# Altium footprint library SparkFun-Connectors.PCBLIB: 305 footprints (part 12 of 20)
Each footprint in its own frame and in the unit in brackets; x right, y up, seen from the top. Pads: shape width x height; smd on the part's side, far side on the other; paste and mask are expansions set on the pad; w line width, h text height; cw(c..) or ccw(c..) is an arc to the next point about the centre after c.
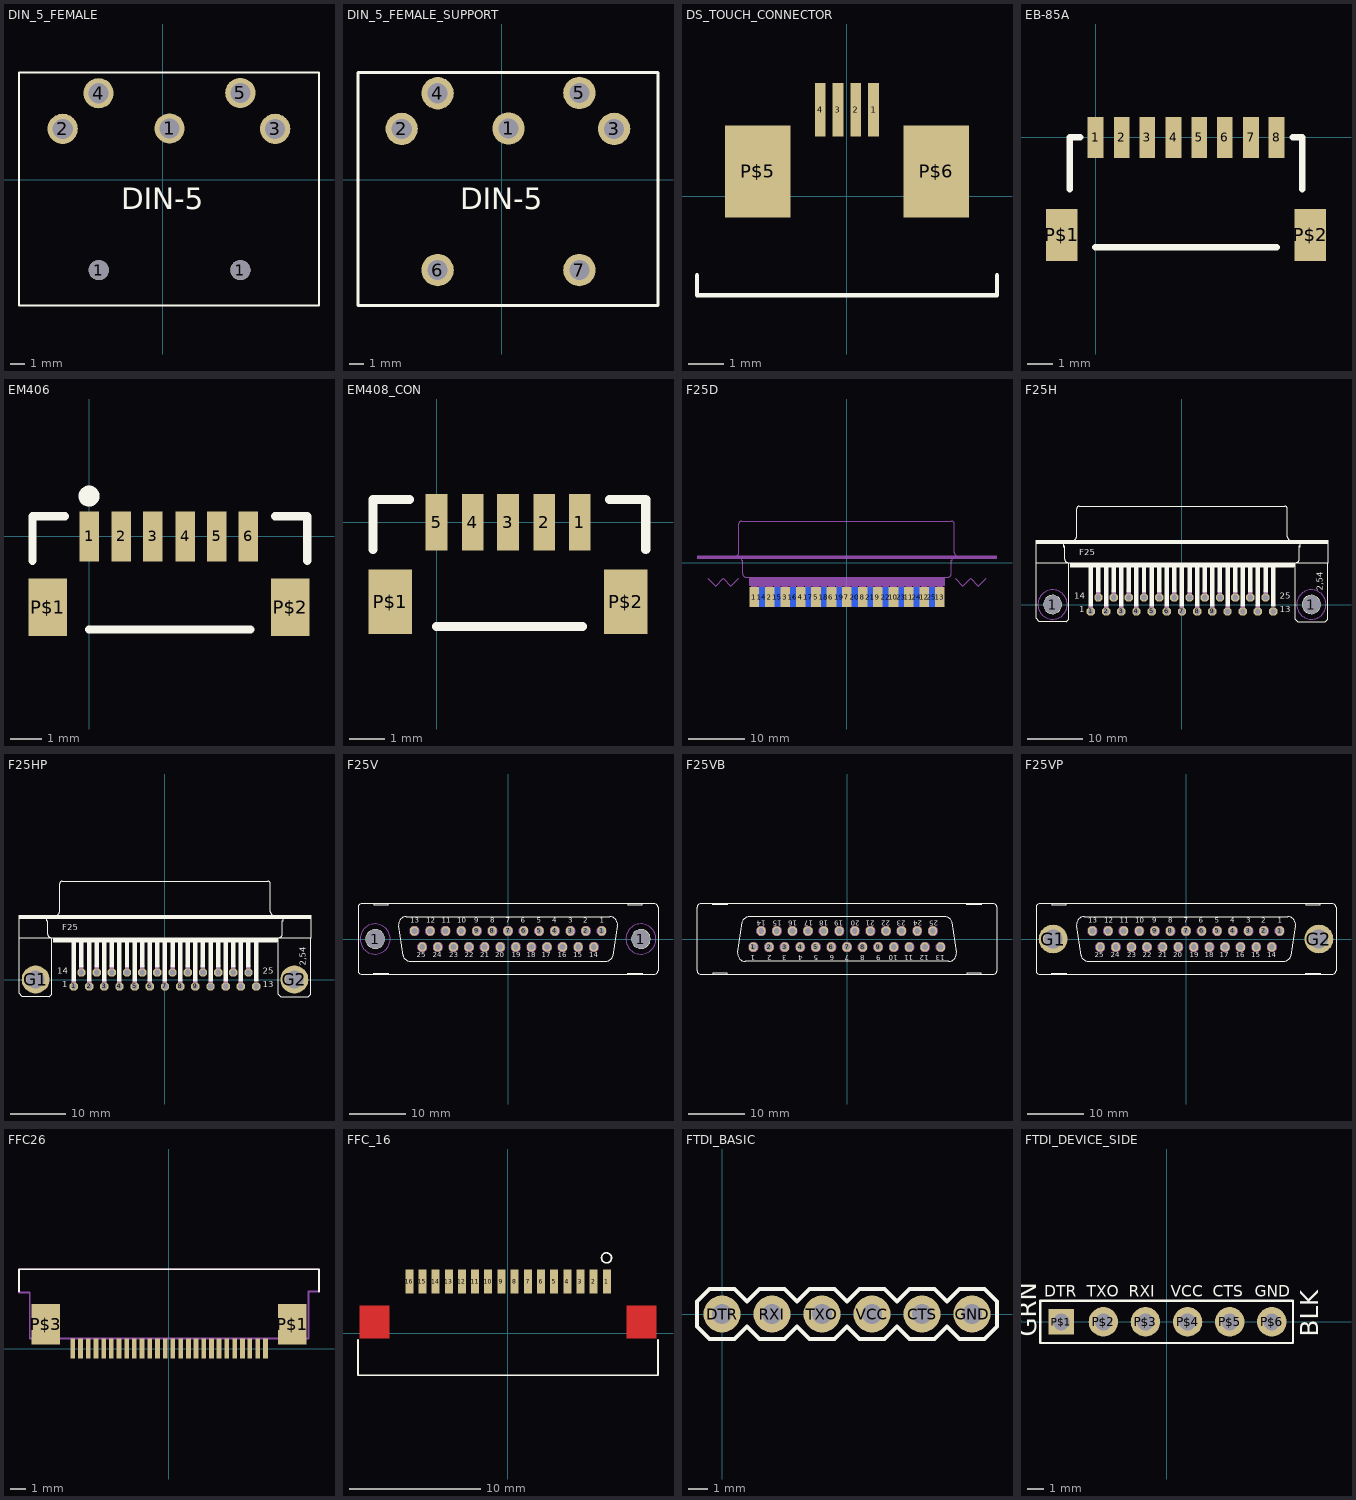
[diagram p11: the footprints below, top view; thin cyan lines are the x and y axes]

## DIN_5_FEMALE [mil]
pads (7):
  round 56 hole 56: 1(-177.95,-251.18) 1(216,-251.18)
  round 84 hole 56: 1(19,143) 2(-278.35,142) 3(313,142) 4(-178.35,241) 5(216,242)
Top Overlay:
  lines w5: -400,-350 435,-350 435,299 -400,299 -400,-350
  text "DIN-5" at -115.75,-100.79 h102.3
Mechanical 16:
  lines w4: 18,142 19,142

## DIN_5_FEMALE_SUPPORT [mil]
pads (7):
  round 90 hole 56: 1(19,143) 2(-278.35,142) 3(313,142) 4(-178.35,241) 5(216,242) 6(-178.35,-251.27) 7(216,-251.27)
Top Overlay:
  lines w8: -400,-350 435,-350 435,299 -400,299 -400,-350
  text "DIN-5" at -115.75,-100.79 h102.3
Mechanical 16:
  lines w4: 18,142 19,142

## DS_TOUCH_CONNECTOR [mil]
pads (6):
  rect 12x60 smd: 1(30,97) 2(10,97) 3(-9.84,97) 4(-29.53,97)
  rect 73x103 smd: P$5(-99.41,28) P$6(100,28)
Top Overlay:
  lines w5: -167.32,-87.8 -167.32,-110.24 168,-110.24 168,-87.8

## EB-85A [mil]
pads (10):
  rect 24x62 smd: 1(0,0) 2(40,0) 3(79,0) 4(119,0) 5(158,0) 6(197,0) 7(237,0) 8(276,0)
  rect 48x79 smd: P$1(-51.18,-148.62) P$2(327,-148.62)
Top Overlay:
  lines w10: -39.37,-78.74 -39.37,0 -23.62,0 ; 0,-167.32 276,-167.32 ; 301,0 315,0 315,-78.74

## EM406 [mil]
pads (8):
  rect 24x62 smd: 1(0,0) 2(40,0) 3(79,0) 4(119,0) 5(158,0) 6(197,0)
  rect 48x71 smd: P$1(-51.18,-87.6) P$2(249,-87.6)
Top Overlay:
  circle w16: c0,50 r5
  lines w10: -70,-30 -70,25 -30,25 ; 0,-115 200,-115 ; 230,25 270,25 270,-30

## EM408_CON [mil]
pads (7):
  rect 24x62 smd: 1(158,0) 2(119,0) 3(79,0) 4(40,0) 5(0,0)
  rect 48x71 smd: P$1(-51.18,-87.6) P$2(209,-87.6)
Top Overlay:
  lines w10: -70,-30 -70,25 -30,25 ; 0,-115 161,-115 ; 191,25 231,25 231,-30

## F25D [mil]
pads (25):
  rect 67x138 smd: 1(-648.01,-237.98) 2(-540,-237.99) 3(-431.99,-237.98) 4(-324.01,-237.98) 5(-215.99,-237.98) 6(-108.01,-237.98) 7(0,-237.99) 8(109,-237.98) 9(216,-237.98) 10(325,-237.98) 11(432,-237.98) 12(540,-237.99) 13(649,-237.98)
  rect 67x138 smd far side: 14(-594,-238) 15(-486,-238) 16(-378,-238) 17(-270,-238) 18(-162,-238) 19(-54,-238) 20(54,-238) 21(162,-238) 22(270,-238) 23(378,-238) 24(486,-238) 25(594,-238)
Bottom Overlay:
  text "25" at 627,-32.48 h77.5
  text "14" at -553.13,-32.48 h77.5
Mechanical 13:
  lines w0: -972,-108 -918,-162 -864,-108 -810,-162 -756,-108 ; 756,-108 810,-162 864,-108 918,-162 972,-108
  text "Board" at 774,-100 h77.5
  text "Board" at -974,-100 h77.5
Mechanical 16:
  rectangle: -671.62,-258.27 -624.38,-159.84
  rectangle: -563.62,-258.27 -516.38,-159.84
  rectangle: -455.62,-258.27 -408.38,-159.84
  rectangle: -347.62,-258.27 -300.38,-159.84
  rectangle: -239.62,-258.27 -192.38,-159.84
  rectangle: -131.62,-258.27 -84.38,-159.84
  rectangle: -23.62,-258.27 24,-159.84
  rectangle: 85,-258.27 132,-159.84
  rectangle: -1047.24,28 1048,52
  rectangle: -685.04,-161.42 686,-98.43
  rectangle: 193,-258.27 240,-159.84
  rectangle: 301,-258.27 348,-159.84
  rectangle: 409,-258.27 456,-159.84
  rectangle: 517,-258.27 564,-159.84
  rectangle: 625,-258.27 672,-159.84
  lines w6: -780,48 ccw(c-780,73) -755,73 -755,273 cw(c-735,273) -735,293 730,293 cw(c730,273) 750,273 750,73 ccw(c775,73) 775,48 ; -734,40 -734,20 -729,20 -729,-75 ccw(c-704,-75) -704,-100 ; -704.76,-100 705,-100 ; 704,-100 ccw(c704,-75) 729,-75 729,20 734,20 734,40
  text "1" at -665.07,-85.77 h77.5
  text "F25D" at -678,181 h77.5
  text "13" at 613,-81.83 h77.5
Mechanical 30:
  rectangle: -617.62,-258.27 -570.38,-159.84
  rectangle: -509.62,-258.27 -462.38,-159.84
  rectangle: -401.62,-258.27 -354.38,-159.84
  rectangle: -293.62,-258.27 -246.38,-159.84
  rectangle: -185.62,-258.27 -138.38,-159.84
  rectangle: -77.62,-258.27 -30.38,-159.84
  rectangle: 31,-258.27 78,-159.84
  rectangle: 139,-258.27 186,-159.84
  rectangle: 247,-258.27 294,-159.84
  rectangle: 355,-258.27 402,-159.84
  rectangle: 463,-258.27 510,-159.84
  rectangle: 571,-258.27 618,-159.84

## F25H [mil]
pads (27):
  round 130 hole 130: 1(-926,0) 1(926,0)
  oct 60x60 hole 40: 1(-652,-50) 2(-543,-50) 3(-435,-50) 4(-326,-50) 5(-217,-50) 6(-109,-50) 7(0,-50) 8(109,-50) 9(217,-50) 10(326,-50) 11(435,-50) 12(543,-50) 13(652,-50) 14(-598,50) 15(-489,50) 16(-380,50) 17(-272,50) 18(-163,50) 19(-54,50) 20(54,50) 21(163,50) 22(272,50) 23(380,50) 24(489,50) 25(598,50)
Top Overlay:
  circle w6: c-926,0 r65
  circle w6: c926,0 r65
  rectangle: -800,270 800,300
  rectangle: -1045,440 1045,460
  rectangle: -668,-15 -636,270
  rectangle: -614,85 -582,270
  rectangle: -559,-15 -527,270
  rectangle: -505,85 -473,270
  rectangle: -451,-15 -419,270
  rectangle: -396,85 -364,270
  rectangle: -342,-15 -310,270
  rectangle: -288,85 -256,270
  rectangle: -233,-15 -201,270
  rectangle: -179,85 -147,270
  rectangle: -125,-15 -93,270
  rectangle: -70,85 -38,270
  rectangle: -16,-15 16,270
  rectangle: 38,85 70,270
  rectangle: 93,-15 125,270
  rectangle: 147,85 179,270
  rectangle: 201,-15 233,270
  rectangle: 255,85 287,270
  rectangle: 310,-15 342,270
  rectangle: 364,85 396,270
  rectangle: 419,-15 451,270
  rectangle: 473,85 505,270
  rectangle: 527,-15 559,270
  rectangle: 582,85 614,270
  rectangle: 636,-15 668,270
  lines w6: -845,410 -845,420 ; -815,300 cw(c-815,325) -840,325 -840,420 -845,420 ; -780,460 ccw(c-780,485) -755,485 -755,685 cw(c-735,685) -735,705 -725,705 725,705 735,705 cw(c735,685) 755,685 755,485 ccw(c780,485) 780,460 ; 815,300 ccw(c815,325) 840,325 840,420 845,420 ; 845,410 845,420 ; -1045,300 -845,300 -810,300 ; -1045,300 -1045,420 -1045,440 ; -1045,300 -1045,295 -1045,-100 -1020,-125 -830,-125 -810,-105 -810,300 ; -1045,440 -1045,460 -740,460 740,460 1045,460 1045,440 ; -1045,440 -945,440 -845,440 ; -845,420 -845,440 ; -845,440 845,440 ; -810,300 -800,300 ; -800,300 -800,270 800,270 800,300 ; -800,300 800,300 ; 800,300 810,300 ; 810,300 845,300 1045,300 ; 810,300 810,-105 830,-125 1025,-125 1045,-105 1045,295 1045,300 ; 845,420 845,440 ; 845,440 945,440 1045,440 ; 1045,300 1045,420 1045,440
  text "1" at -735,-75 h77.5
  text "13" at 700,-75 h77.5
  text "14" at -770,25 h77.5
  text "25" at 700,25 h77.5
  text "2,54" at 1025,100 h77.5
  text "F25" at -735,335 h77.5
Mechanical 9:
  circle w0: c-926,0 r105
  circle w0: c926,0 r105
Mechanical 10:
  circle w0: c-926,0 r105
  circle w0: c926,0 r105
Mechanical 16:
  lines w6: 652,-45 652,-5
  lines w32: -652,-45 -652,-5 ; -598,55 -598,95 ; -543,-45 -543,-5 ; -489,55 -489,95 ; -435,-45 -435,-5 ; -380,55 -380,95 ; -326,-45 -326,-5 ; -272,55 -272,95 ; -217,-45 -217,-5 ; -163,55 -163,95 ; -109,-45 -109,-5 ; -54,55 -54,95 ; 0,-45 0,-5 ; 54,55 54,95 ; 109,-45 109,-5 ; 163,55 163,95 ; 217,-45 217,-5 ; 271,55 271,95 ; 326,-45 326,-5 ; 380,55 380,95 ; 435,-45 435,-5 ; 489,55 489,95 ; 543,-45 543,-5 ; 598,55 598,95

## F25HP [mil]
pads (27):
  oct 60x60 hole 40: 1(-652,-50) 2(-543,-50) 3(-435,-50) 4(-326,-50) 5(-217,-50) 6(-109,-50) 7(0,-50) 8(109,-50) 9(217,-50) 10(326,-50) 11(435,-50) 12(543,-50) 13(652,-50) 14(-598,50) 15(-489,50) 16(-380,50) 17(-272,50) 18(-163,50) 19(-54,50) 20(54,50) 21(163,50) 22(272,50) 23(380,50) 24(489,50) 25(598,50)
  round 200 hole 130: G1(-926,0) G2(926,0)
Top Overlay:
  circle w6: c-926,0 r65
  circle w6: c926,0 r65
  rectangle: -800,270 800,300
  rectangle: -1045,440 1045,460
  rectangle: -668,-15 -636,270
  rectangle: -614,85 -582,270
  rectangle: -559,-15 -527,270
  rectangle: -505,85 -473,270
  rectangle: -451,-15 -419,270
  rectangle: -396,85 -364,270
  rectangle: -342,-15 -310,270
  rectangle: -288,85 -256,270
  rectangle: -233,-15 -201,270
  rectangle: -179,85 -147,270
  rectangle: -124,-15 -92,270
  rectangle: -70,85 -38,270
  rectangle: -16,-15 16,270
  rectangle: 38,85 70,270
  rectangle: 93,-15 125,270
  rectangle: 147,85 179,270
  rectangle: 201,-15 233,270
  rectangle: 256,85 288,270
  rectangle: 310,-15 342,270
  rectangle: 364,85 396,270
  rectangle: 419,-15 451,270
  rectangle: 472,85 504,270
  rectangle: 527,-15 559,270
  rectangle: 581,85 613,270
  rectangle: 636,-15 668,270
  lines w6: -815,300 cw(c-815,325) -840,325 -840,420 -845,420 -845,440 ; -780,460 ccw(c-780,485) -755,485 -755,685 cw(c-735,685) -735,705 -725,705 725,705 735,705 cw(c735,685) 755,685 755,485 ccw(c780,485) 780,460 ; 815,300 ccw(c815,325) 840,325 840,420 845,420 845,440 ; -1045,300 -845,300 -810,300 ; -1045,300 -1045,420 -1045,440 ; -1045,300 -1045,295 -1045,-100 -1020,-125 -830,-125 -810,-105 -810,300 ; -1045,440 -1045,460 -740,460 740,460 1045,460 1045,440 ; -1045,440 -945,440 -845,440 ; -845,440 845,440 ; -810,300 -800,300 ; -800,300 -800,270 800,270 800,300 ; -800,300 800,300 ; 800,300 810,300 ; 810,300 845,300 1045,300 ; 810,300 810,-105 830,-125 1025,-125 1045,-105 1045,295 1045,300 ; 845,440 945,440 1045,440 ; 1045,300 1045,420 1045,440
  text "1" at -735,-75 h77.5
  text "13" at 700,-75 h77.5
  text "14" at -770,25 h77.5
  text "25" at 700,25 h77.5
  text "2,54" at 1025,100 h77.5
  text "F25" at -735,335 h77.5
Mechanical 16:
  lines w6: 652,-45 652,-5
  lines w32: -652,-45 -652,-5 ; -598,55 -598,95 ; -543,-45 -543,-5 ; -489,55 -489,95 ; -435,-45 -435,-5 ; -380,55 -380,95 ; -326,-45 -326,-5 ; -272,55 -272,95 ; -217,-45 -217,-5 ; -163,55 -163,95 ; -109,-45 -109,-5 ; -54,55 -54,95 ; 0,-45 0,-5 ; 54,55 54,95 ; 109,-45 109,-5 ; 163,55 163,95 ; 217,-45 217,-5 ; 272,55 272,95 ; 326,-45 326,-5 ; 380,55 380,95 ; 435,-45 435,-5 ; 488,55 488,95 ; 543,-45 543,-5 ; 597,55 597,95

## F25V [mil]
pads (27):
  round 130 hole 130: 1(-926,0) 1(926,0)
  oct 60x60 hole 40: 1(652,56) 2(543,56) 3(435,56) 4(326,56) 5(217,56) 6(109,56) 7(0,56) 8(-109,56) 9(-217,56) 10(-326,56) 11(-435,56) 12(-543,56) 13(-652,56) 14(598,-56) 15(489,-56) 16(380,-56) 17(272,-56) 18(163,-56) 19(54,-56) 20(-54,-56) 21(-163,-56) 22(-272,-56) 23(-380,-56) 24(-489,-56) 25(-598,-56)
Top Overlay:
  circle w6: c-926,0 r65
  circle w6: c926,0 r65
  lines w6: -762,92 -731,-116 ; -761.97,92 cw(c-710.16,102.2) -710,155 710,155 cw(c710.22,102.06) 762,91 731,-115 ; -731.3,-115.33 ccw(c-680,-102) -680,-155 680,-155 ccw(c680.23,-101.7) 732,-114.37 ; -935,-245 -935,-240 -835,-240 -835,-245 ; -935,-245 -835,-245 ; -935,-245 -1020,-245 cw(c-1020,-220) -1045,-220 -1045,220 cw(c-1020,220) -1020,245 -935,245 ; -935,245 -935,240 -835,240 -835,245 ; -935,245 -835,245 ; -835,-245 835,-245 ; -835,245 835,245 ; 835,-245 835,-240 935,-240 935,-245 ; 835,-245 935,-245 ; 835,245 835,240 935,240 935,245 ; 835,245 935,245 ; 935,-245 1020,-245 ccw(c1020,-220) 1045,-220 1045,220 ccw(c1020,220) 1020,245 935,245
  text "1" at 640,100 h60.45
  text "2" at 525,100 h60.45
  text "3" at 420,100 h60.45
  text "4" at 310,100 h60.45
  text "5" at 200,100 h60.45
  text "6" at 90,100 h60.45
  text "7" at -15,100 h60.45
  text "8" at -125,100 h60.45
  text "9" at -235,100 h60.45
  text "10" at -355,100 h60.45
  text "11" at -460,100 h60.45
  text "12" at -570,100 h60.45
  text "13" at -680,100 h60.45
  text "25" at -635,-140 h60.45
  text "24" at -525,-140 h60.45
  text "23" at -410,-140 h60.45
  text "22" at -300,-140 h60.45
  text "21" at -195,-140 h60.45
  text "20" at -90,-140 h60.45
  text "19" at 25,-140 h60.45
  text "18" at 130,-140 h60.45
  text "17" at 235,-140 h60.45
  text "16" at 345,-140 h60.45
  text "15" at 455,-140 h60.45
  text "14" at 565,-140 h60.45
Mechanical 9:
  circle w0: c926,0 r105
  circle w0: c-926,0 r105
Mechanical 10:
  circle w0: c926,0 r105
  circle w0: c-926,0 r105
Mechanical 16:
  circle w10: c54,-56 r30
  circle w10: c0,56 r30
  circle w10: c-54,-56 r30
  circle w10: c109,56 r30
  circle w10: c-109,56 r30
  circle w10: c163,-56 r30
  circle w10: c-163,-56 r30
  circle w10: c217,56 r30
  circle w10: c326,56 r30
  circle w10: c272,-56 r30
  circle w10: c380,-56 r30
  circle w10: c435,56 r30
  circle w10: c489,-56 r30
  circle w10: c543,56 r30
  circle w10: c598,-56 r30
  circle w10: c652,56 r30
  circle w10: c-217,56 r30
  circle w10: c-326,56 r30
  circle w10: c-435,56 r30
  circle w10: c-272,-56 r30
  circle w10: c-380,-56 r30
  circle w10: c-489,-56 r30
  circle w10: c-543,56 r30
  circle w10: c-652,56 r30
  circle w10: c-598,-56 r30

## F25VB [mil]
pads (25):
  oct 60x60 hole 40: 1(-652,-56) 2(-543,-56) 3(-435,-56) 4(-326,-56) 5(-217,-56) 6(-109,-56) 7(0,-56) 8(109,-56) 9(217,-56) 10(326,-56) 11(435,-56) 12(543,-56) 13(652,-56) 14(-598,56) 15(-489,56) 16(-380,56) 17(-272,56) 18(-163,56) 19(-54,56) 20(54,56) 21(163,56) 22(272,56) 23(380,56) 24(489,56) 25(598,56)
Top Overlay:
  lines w6: -762,-91 -731,115 ; -761.79,-90.7 ccw(c-710,-101.99) -710,-155 710,-155 ccw(c710.01,-101.99) 762,-91.61 ; -731.52,115 cw(c-680.39,102.31) -680,155 680,155 cw(c680.78,101.88) 732,116 ; 731,116 762,-92 ; -935,-245 -1020,-245 cw(c-1020,-220) -1045,-220 -1045,220 cw(c-1020,220) -1020,245 -935,245 ; -935,-245 -935,-240 -835,-240 -835,-245 ; -935,-245 -835,-245 ; -935,245 -835,245 ; -935,245 -935,240 -835,240 -835,245 ; -835,-245 835,-245 ; -835,245 835,245 ; 835,-245 835,-240 935,-240 935,-245 ; 835,-245 935,-245 ; 835,245 935,245 ; 835,245 835,240 935,240 935,245 ; 935,-245 1020,-245 ccw(c1020,-220) 1045,-220 1045,220 ccw(c1020,220) 1020,245 935,245
  text "1" at -640,-100 h60.45
  text "2" at -525,-100 h60.45
  text "3" at -420,-100 h60.45
  text "4" at -310,-100 h60.45
  text "5" at -200,-100 h60.45
  text "6" at -90,-100 h60.45
  text "7" at 15,-100 h60.45
  text "8" at 125,-100 h60.45
  text "9" at 235,-100 h60.45
  text "10" at 355,-100 h60.45
  text "11" at 460,-100 h60.45
  text "12" at 570,-100 h60.45
  text "13" at 680,-100 h60.45
  text "25" at 635,140 h60.45
  text "24" at 525,140 h60.45
  text "23" at 410,140 h60.45
  text "22" at 300,140 h60.45
  text "21" at 195,140 h60.45
  text "20" at 90,140 h60.45
  text "19" at -25,140 h60.45
  text "18" at -130,140 h60.45
  text "17" at -235,140 h60.45
  text "16" at -345,140 h60.45
  text "15" at -455,140 h60.45
  text "14" at -565,140 h60.45
Mechanical 16:
  circle w10: c-54,56 r30
  circle w10: c0,-56 r30
  circle w10: c54,56 r30
  circle w10: c-109,-56 r30
  circle w10: c109,-56 r30
  circle w10: c-163,56 r30
  circle w10: c163,56 r30
  circle w10: c-217,-56 r30
  circle w10: c-326,-56 r30
  circle w10: c-272,56 r30
  circle w10: c-380,56 r30
  circle w10: c-435,-56 r30
  circle w10: c-489,56 r30
  circle w10: c-543,-56 r30
  circle w10: c-598,56 r30
  circle w10: c-652,-56 r30
  circle w10: c217,-56 r30
  circle w10: c326,-56 r30
  circle w10: c435,-56 r30
  circle w10: c272,56 r30
  circle w10: c380,56 r30
  circle w10: c489,56 r30
  circle w10: c543,-56 r30
  circle w10: c652,-56 r30
  circle w10: c598,56 r30

## F25VP [mil]
pads (27):
  oct 60x60 hole 40: 1(652,56) 2(543,56) 3(435,56) 4(326,56) 5(217,56) 6(109,56) 7(0,56) 8(-109,56) 9(-217,56) 10(-326,56) 11(-435,56) 12(-543,56) 13(-652,56) 14(598,-56) 15(489,-56) 16(380,-56) 17(272,-56) 18(163,-56) 19(54,-56) 20(-54,-56) 21(-163,-56) 22(-272,-56) 23(-380,-56) 24(-489,-56) 25(-598,-56)
  round 200 hole 130: G1(-926,0) G2(926,0)
Top Overlay:
  circle w6: c-926,0 r65
  circle w6: c926,0 r65
  lines w6: -762,92 -731,-116 ; -761.97,92 cw(c-710.16,102.2) -710,155 710,155 cw(c710.22,102.06) 762,91 731,-115 ; -731.3,-115.33 ccw(c-680,-102) -680,-155 680,-155 ccw(c680.23,-101.7) 732,-114.37 ; -935,-245 -935,-240 -835,-240 -835,-245 ; -935,-245 -835,-245 ; -935,-245 -1020,-245 cw(c-1020,-220) -1045,-220 -1045,220 cw(c-1020,220) -1020,245 -935,245 ; -935,245 -935,240 -835,240 -835,245 ; -935,245 -835,245 ; -835,-245 835,-245 ; -835,245 835,245 ; 835,-245 835,-240 935,-240 935,-245 ; 835,-245 935,-245 ; 835,245 835,240 935,240 935,245 ; 835,245 935,245 ; 935,-245 1020,-245 ccw(c1020,-220) 1045,-220 1045,220 ccw(c1020,220) 1020,245 935,245
  text "1" at 640,100 h60.45
  text "2" at 525,100 h60.45
  text "3" at 420,100 h60.45
  text "4" at 310,100 h60.45
  text "5" at 200,100 h60.45
  text "6" at 90,100 h60.45
  text "7" at -15,100 h60.45
  text "8" at -125,100 h60.45
  text "9" at -235,100 h60.45
  text "10" at -355,100 h60.45
  text "11" at -460,100 h60.45
  text "12" at -570,100 h60.45
  text "13" at -680,100 h60.45
  text "25" at -635,-140 h60.45
  text "24" at -525,-140 h60.45
  text "23" at -410,-140 h60.45
  text "22" at -300,-140 h60.45
  text "21" at -195,-140 h60.45
  text "20" at -90,-140 h60.45
  text "19" at 25,-140 h60.45
  text "18" at 130,-140 h60.45
  text "17" at 235,-140 h60.45
  text "16" at 345,-140 h60.45
  text "15" at 455,-140 h60.45
  text "14" at 565,-140 h60.45
Mechanical 16:
  circle w10: c54,-56 r30
  circle w10: c0,56 r30
  circle w10: c-54,-56 r30
  circle w10: c109,56 r30
  circle w10: c-109,56 r30
  circle w10: c163,-56 r30
  circle w10: c-163,-56 r30
  circle w10: c217,56 r30
  circle w10: c326,56 r30
  circle w10: c272,-56 r30
  circle w10: c380,-56 r30
  circle w10: c435,56 r30
  circle w10: c489,-56 r30
  circle w10: c543,56 r30
  circle w10: c598,-56 r30
  circle w10: c652,56 r30
  circle w10: c-217,56 r30
  circle w10: c-326,56 r30
  circle w10: c-435,56 r30
  circle w10: c-272,-56 r30
  circle w10: c-380,-56 r30
  circle w10: c-489,-56 r30
  circle w10: c-543,56 r30
  circle w10: c-652,56 r30
  circle w10: c-598,-56 r30

## FFC26 [mil]
pads (28):
  rect 12x52 smd: 1(247,0) 2(227,0) 3(207,0) 4(188,0) 5(168,0) 6(148,0) 7(128,0) 8(109,0) 9(89,0) 10(69,0) 11(50,0) 12(30,0) 13(10,0) 14(-9.84,0) 15(-29.53,0) 16(-49.21,0) 17(-68.9,0) 18(-88.58,0) 19(-108.27,0) 20(-127.95,0) 21(-147.64,0) 22(-167.32,0) 23(-187.01,0) 24(-206.69,0) 25(-226.38,0) 26(-246.06,0)
  rect 73x103 smd: P$1(316,62) P$3(-315.94,62)
Top Overlay:
  lines w5: -383.86,146 -383.86,203 384,203 384,146
Mechanical 16:
  rectangle: 6,-17.72 14,26
  rectangle: -33.46,-17.72 -25.59,26
  rectangle: -72.83,-17.72 -64.96,26
  rectangle: -112.2,-17.72 -104.33,26
  rectangle: -151.57,-17.72 -143.7,26
  rectangle: -190.94,-17.72 -183.07,26
  rectangle: -230.31,-17.72 -222.44,26
  rectangle: 46,-17.72 54,26
  rectangle: 85,-17.72 93,26
  rectangle: 125,-17.72 132,26
  rectangle: 164,-17.72 172,26
  rectangle: 203,-17.72 211,26
  rectangle: 243,-17.72 250,26
  rectangle: -250,-17.72 -242.13,26
  rectangle: -210.63,-17.72 -202.76,26
  rectangle: -171.26,-17.72 -163.39,26
  rectangle: -131.89,-17.72 -124.02,26
  rectangle: -92.52,-17.72 -84.65,26
  rectangle: -53.15,-17.72 -45.28,26
  rectangle: -13.78,-17.72 -5.91,26
  rectangle: 26,-17.72 34,26
  rectangle: 65,-17.72 73,26
  rectangle: 105,-17.72 113,26
  rectangle: 144,-17.72 152,26
  rectangle: 184,-17.72 191,26
  rectangle: 223,-17.72 231,26
  rectangle: -349.61,26 -282.68,101
  rectangle: 282,26 349,101
  lines w5: -383.86,144 -383.86,203 384,203 384,146 357,146 357,113 357,26 -356.3,26 -356.3,144 -383.86,144

## FFC_16 [mil]
pads (16):
  rect 24x71 smd: 1(296,154) 2(256,154) 3(217,154) 4(178,154) 5(138,154) 6(99,154) 7(60,154) 8(20,154) 9(-19.68,154) 10(-59.06,154) 11(-98.43,154) 12(-137.8,154) 13(-177.17,154) 14(-216.54,154) 15(-255.91,154) 16(-295.28,154)
Top Layer:
  rectangle: -444.88,-15.75 -354.33,83
  rectangle: 355,-15.75 445,83
Top Overlay:
  circle w5: c295,225 r15
  lines w5: -448.82,-19.68 -448.82,-125.98 449,-125.98 449,-19.68
Top Paste:
  region: 0,0 10,0 10,10 0,10
  region: 0,0 10,0 10,10 0,10
Top Solder:
  region: 0,0 10,0 10,10 0,10
  region: 0,0 10,0 10,10 0,10

## FTDI_BASIC [mil]
pads (6):
  round 74 hole 40: CTS(400,0) DTR(0,0) GND(500,0) RXI(100,0) TXO(200,0) VCC(300,0)
Top Overlay:
  lines w8: -50,-25 -50,25 -25,50 25,50 50,25 75,50 125,50 150,25 175,50 225,50 250,25 275,50 325,50 350,25 375,50 425,50 450,25 475,50 525,50 550,25 550,-25 525,-50 475,-50 450,-25 425,-50 375,-50 350,-25 325,-50 275,-50 250,-25 225,-50 175,-50 150,-25 125,-50 75,-50 50,-25 25,-50 -25,-50 -50,-25
Mechanical 16:
  rectangle: 490,-10 510,10
  rectangle: 390,-10 410,10
  rectangle: 290,-10 310,10
  rectangle: 190,-10 210,10
  rectangle: 90,-10 110,10
  rectangle: -10,-10 10,10
  text "GRN" at 25,75 h77.5
  text "BLK" at 525,75 h77.5

## FTDI_DEVICE_SIDE [mil]
pads (6):
  rect 60x60 hole 40: P$1(-250,0)
  round 70 hole 40: P$2(-150,0) P$3(-50,0) P$4(50,0) P$5(150,0) P$6(250,0)
Top Overlay:
  lines w5: -300,-50 300,-50 300,50 -300,50 -300,-50
  text "GRN" at -310,-35 h42.5
  text "BLK" at 360,-35 h42.5
  text "TXO" at -190,60 h27.2
  text "RXI" at -90,60 h27.2
  text "VCC" at 10,60 h27.2
  text "DTR" at -290,60 h27.2
  text "GND" at 210,60 h27.2
  text "CTS" at 110,60 h27.2